# Altium footprint library SW_DS01C-254-L-08BE.PcbLib: 1 footprints
Each footprint in its own frame and in the unit in brackets; x right, y up, seen from the top. Pads: shape width x height; smd on the part's side, far side on the other; paste and mask are expansions set on the pad; w line width, h text height; cw(c..) or ccw(c..) is an arc to the next point about the centre after c.
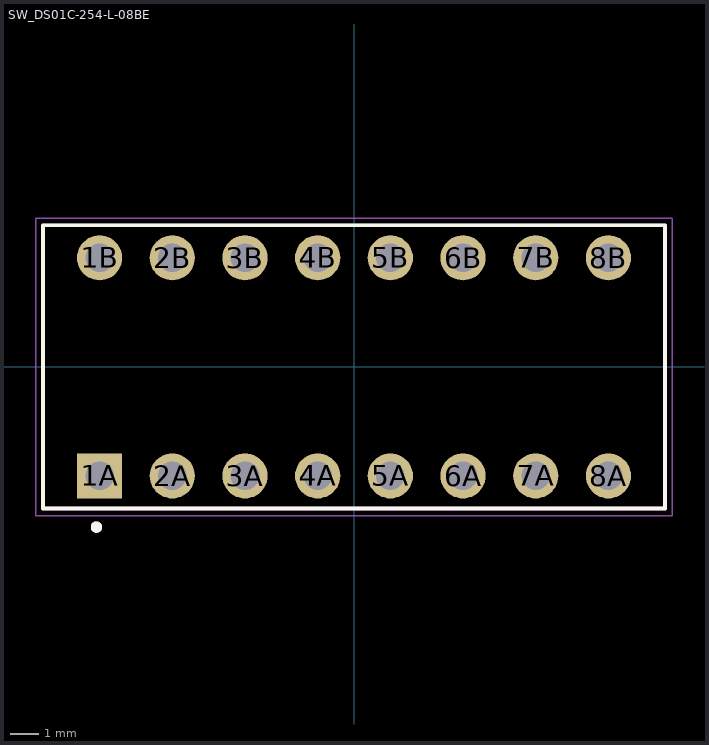
[diagram p0: the footprint, top view; thin cyan lines are the x and y axes]

## SW_DS01C-254-L-08BE [mm]
height 7
pads (16):
  rect 1.58x1.58 / inner round 1.58 / far side rect 1.58x1.58 hole 1: 1A(-8.89,-3.81)
  round 1.58 hole 1: 1B(-8.89,3.81) 2A(-6.35,-3.81) 2B(-6.35,3.81) 3A(-3.81,-3.81) 3B(-3.81,3.81) 4A(-1.27,-3.81) 4B(-1.27,3.81) 5A(1.27,-3.81) 5B(1.27,3.81) 6A(3.81,-3.81) 6B(3.81,3.81) 7A(6.35,-3.81) 7B(6.35,3.81) 8A(8.89,-3.81) 8B(8.89,3.81)
Top Overlay:
  circle w0.2: c-9,-5.6 r0.1
  lines w0.127: -10.87,-4.95 10.87,-4.95 10.87,4.95 -10.87,4.95 -10.87,-4.95
Assembly Top:
  circle w0.2: c-9,-5.6 r0.1
  lines w0.127: -10.87,-4.95 10.87,-4.95 10.87,4.95 -10.87,4.95 -10.87,-4.95
Courtyard Top:
  lines w0.05: -11.12,-5.2 11.12,-5.2 11.12,5.2 -11.12,5.2 -11.12,-5.2
3D body "step_temp.STEP": height 6.7, standoff -3.65, extent -10.997,-4.699 10.743,5.201